# Altium footprint library LM2576_Buckconverter.PcbLib: 8 footprints
Each footprint in its own frame and in the unit in brackets; x right, y up, seen from the top. Pads: shape width x height; smd on the part's side, far side on the other; paste and mask are expansions set on the pad; w line width, h text height; cw(c..) or ccw(c..) is an arc to the next point about the centre after c.
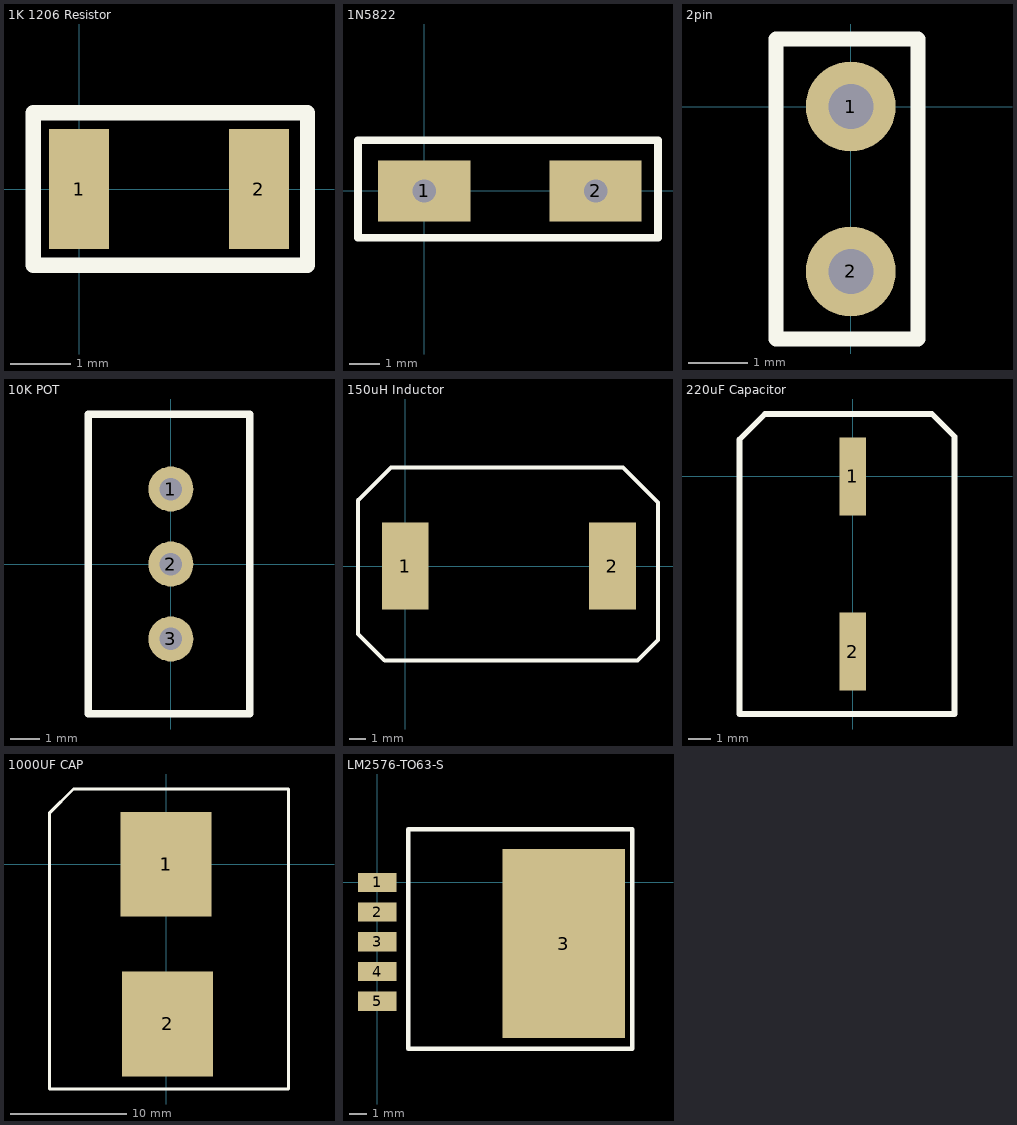
[diagram p0: the footprints below, top view; thin cyan lines are the x and y axes]

## 1K 1206 Resistor [mm]
pads (2):
  rect 1x2 smd: 1(0,0) 2(3,0)
Top Overlay:
  lines w0.254: -0.762,-1.27 3.81,-1.27 3.81,1.27 -0.762,1.27 -0.762,-1.27
3D body "User Library-Resistor SMD 1206.step": height 1.11, standoff -0.01, extent -0.076,-0.81 3.124,0.81

## 1N5822 [mm]
pads (2):
  rect 3x2 hole 0.762: 1(0,0) 2(5.588,0)
Top Overlay:
  lines w0.254: -2.159,-1.524 -2.159,1.651 7.62,1.651 7.62,-1.524 -2.159,-1.524
3D body "User Library-DO-214AC(SMA).step": height 2.3, standoff 0.01, extent 0.305,-1.651 5.791,1.143

## 2pin [mil]
pads (2):
  round 60 hole 30: 1(0,0) 2(0,-110)
Top Overlay:
  lines w10: -50,-155 -50,45 45,45 45,-155 -50,-155
3D body "User Library-1x2 TH Pitch 2_54mm.step": height 373.85, standoff -125.98, extent -50,-155 50,45

## 10K POT [mil]
pads (3):
  round 60 hole 30: 1(0,100) 2(0,0) 3(0,-100)
Top Overlay:
  lines w10: -110,-200 -110,200 105,200 105,-200 -110,-200
3D body "User Library-3296W.step": height 455.23, standoff -62.49, extent -94.49,-187.59 94.49,187.6

## 150uH Inductor [mm]
pads (2):
  rect 2.9x5.4 smd: 1(0,0) 2(12.8,0)
Top Overlay:
  lines w0.254: -2.921,-4.191 -2.921,4.064 -0.889,6.096 13.462,6.096 15.621,3.937 15.621,-4.572 14.351,-5.842 -1.27,-5.842 -2.921,-4.191
3D body "srr1210-101m.stp": height 6, standoff -6, extent 0.127,-5 12.127,5

## 220uF Capacitor [mm]
pads (2):
  rect 1.2x3.5 smd: 1(0,0) 2(0,-7.874)
Top Overlay:
  lines w0.254: -5.08,-10.668 -3.302,-10.668 1.524,-10.668 4.572,-10.668 4.572,1.778 3.556,2.794 -3.937,2.794 -5.08,1.651 -5.08,-10.668
3D body "User Library-CC1010.step": height 10.41, standoff 0, extent -5.454,-9.437 4.946,1.563

## 1000UF CAP [mm]
pads (3):
  rect 7.8x9 smd: 1(0,0) 1(0,0) 2(0.127,-13.716)
Top Overlay:
  lines w0.254: -10.033,-19.304 10.541,-19.304 10.541,6.477 -7.952,6.477 -10.033,4.396 -10.033,-19.304
3D body "User Library-Vishay 146 CTI 1616.STEP": height 17.51, standoff 0, extent -8.128,-16.031 8.472,2.569

## LM2576-TO63-S [mm] "AK,6-Pads,Body 7 ,42 x 8 ,51mm( max , IPC  Medium  Density )"
height 4.57
pads (6):
  rect 2.2x1.1 smd: 1(0,0) 2(0,-1.7) 3(0,-3.4) 4(0,-5.1) 5(0,-6.8)
  rect 7x10.8 smd: 3(10.67,-3.5)
Top Overlay:
  lines w0.254: 1.778,-9.525 14.605,-9.525 14.605,3.048 1.778,3.048 1.778,-9.525
3D body "User Library-TO-263BA-1.step": height 4.38, standoff 0, extent 0,-7.906 14.046,2.318